# EAGLE library part AD8137 (library BeaverBoard)
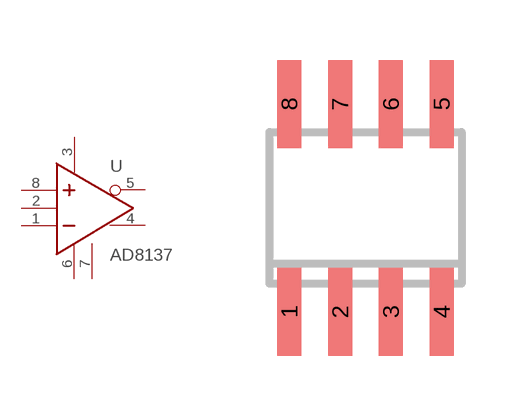
[diagram p2: symbol with the pads of SOIC8; footprint SOIC8]

Designator prefix -

## AD8137  [SOIC8]
1  -IN  in
2  V_OCM  in
3  V_S+  sup
4  +OUT  out
5  -OUT  out
6  V_S-  sup
7  PD  in
8  +IN  in

## Footprint SOIC8 (pad centres in mm)
smd 0.6 x 2.2: 1 -1.905,-2.6; 2 -0.635,-2.6; 3 0.635,-2.6; 4 1.905,-2.6; 5 1.905,2.6; 6 0.635,2.6; 7 -0.635,2.6; 8 -1.905,2.6